# EAGLE library part BQ28Z620DRZR (library BQ28Z620DRZR)
Battery Management Battery fuel gauge with integrated protector for 1-series to 2 series packs with 1.2-V I/O Source: Datasheet
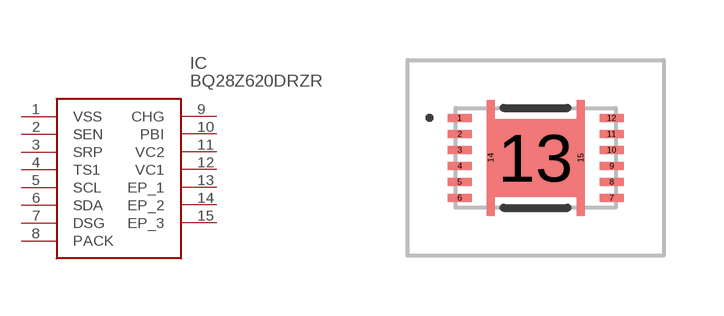
[diagram p0: symbol with the pads of BQ28Z610DRZT; footprint BQ28Z610DRZT]

Designator prefix IC

## BQ28Z620DRZR (Description: Battery Management Battery fuel gauge with integrated protector for 1-series to 2 series packs with 1.2-V I/O; Height: 1mm; Manufacturer_Name: Texas Instruments; Manufacturer_Part_Number: BQ28Z620DRZR; Mouser_Part_Number: 595-BQ28Z620DRZR; Mouser_Price-Stock: https://www.mouser.co.uk/ProductDetail/Texas-Instruments/BQ28Z620DRZR?qs=3Rah4i%252BhyCHmiL1YWVaWZQ%3D%3D)  [BQ28Z610DRZT]
1  VSS
2  SEN
3  SRP
4  TS1
5  SCL
6  SDA
7  DSG
8  PACK
9  CHG
10  PBI
11  VC2
12  VC1
13  EP_1
14  EP_2
15  EP_3

## Footprint BQ28Z610DRZT (pad centres in mm)
DRZ0012A
smd 0.6 x 0.2: 1 -1.9,1; 2 -1.9,0.6; 3 -1.9,0.2; 4 -1.9,-0.2; 5 -1.9,-0.6; 6 -1.9,-1; 7 1.9,-1; 8 1.9,-0.6; 9 1.9,-0.2; 10 1.9,0.2; 11 1.9,0.6; 12 1.9,1
smd 2.05 x 1.95: 13 0,0
smd 0.2 x 2.9: 14 -1.125,0; 15 1.125,0